# EAGLE library part LCD_MODULE (library og-lcd)
Character LCD module
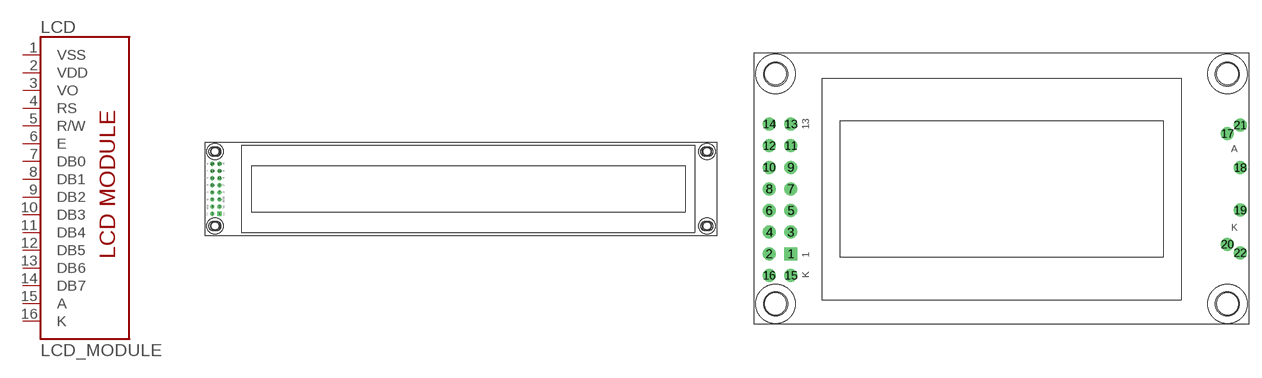
[diagram p0: symbol with the pads of LCD_MODULE_2X40; footprints LCD_MODULE_2X40, LCD_MODULE_2X08]

Designator prefix LCD

## LCD_MODULE  [LCD_MODULE_2X40]
1  VSS  pwr
2  VDD  pwr
3  VO
4  RS  in
5  R/W  in
6  E  in
7  DB0
8  DB1
9  DB2
10  DB3
11  DB4
12  DB5
13  DB6
14  DB7
15  A  pwr
16  K  pwr

## LCD_MODULE2X08  [LCD_MODULE_2X08]
1  VSS  pwr
2  VDD  pwr
3  VO
4  RS  in
5  R/W  in
6  E  in
7  DB0
8  DB1
9  DB2
10  DB3
11  DB4
12  DB5
13  DB6
14  DB7
15  K  pwr
16  A  pwr
17  A  pwr
18  A  pwr
19  K  pwr
20  K  pwr
21  A  pwr
22  K  pwr

## LCD_MODULE2X16  [LCD_MODULE_2X16]
Pads as for LCD_MODULE_2X40

## Footprint LCD_MODULE_2X40 (pad centres in mm)
drill 1.016 square: 1 1.54,-22.16
drill 1.016: 2 -1,-22.16; 3 1.54,-19.62; 4 -1,-19.62; 5 1.54,-17.08; 6 -1,-17.08; 7 1.54,-14.54; 8 -1,-14.54; 9 1.54,-12; 10 -1,-12; 11 1.54,-9.46; 12 -1,-9.46; 13 1.54,-6.92; 14 -1,-6.92; 15 1.54,-4.38; 16 -1,-4.38
hole 3.2 at 0,-26.5
hole 3.2 at 175,-26.5
hole 3.2 at 175,0
hole 3.2 at 0,0.018

## Footprint LCD_MODULE_2X08 (pad centres in mm)
drill 1.016 square: 1 -24.71,-7.62
drill 1.016: 2 -27.25,-7.62; 3 -24.71,-5.08; 4 -27.25,-5.08; 5 -24.71,-2.54; 6 -27.25,-2.54; 7 -24.71,0; 8 -27.25,0; 9 -24.71,2.54; 10 -27.25,2.54; 11 -24.71,5.08; 12 -27.25,5.08; 13 -24.71,7.62; 14 -27.25,7.62; 15 -24.71,-10.16; 16 -27.25,-10.16; 17 26.5,6.5; 18 28,2.5; 19 28,-2.5; 20 26.5,-6.5; 21 28,7.5; 22 28,-7.5
hole 2.8 at -26.5,-13.5
hole 2.8 at -26.5,13.5
hole 2.8 at 26.5,13.5
hole 2.8 at 26.5,-13.5

## Footprint LCD_MODULE_2X16 (pad centres in mm)
drill 1.016 square: 1 -32,15.5
drill 1.016: 2 -29.46,15.5; 3 -26.92,15.5; 4 -24.38,15.5; 5 -21.84,15.5; 6 -19.3,15.5; 7 -16.76,15.5; 8 -14.22,15.5; 9 -11.68,15.5; 10 -9.14,15.5; 11 -6.6,15.5; 12 -4.06,15.5; 13 -1.52,15.5; 14 1.02,15.5; 15 3.56,15.5; 16 6.1,15.5